# Altium schematic symbol library TE_Connectivity_Alcoswitch_FSM6JSMA.SchLib: 1 symbol
Pins are listed as number, name and electrical type; pins without a type are passive.

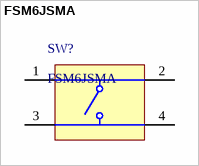
[diagram p0: symbol FSM6JSMA]

## FSM6JSMA
designator SW?
Switch, SPST, 24 V, -35 to 85 degC, 4-Pin SMD, RoHS, Tape and Reel; Manufacturer: TE Connectivity; Contact Resistance: 100mOhm; Operating Force: 1.57N; Current Rating: 50mA; Electrical Life: 100000Cycles; Case\/Package: SMD/SMT; Actuator Length: 3.4mm; Voltage Rating (DC): 24V; Illumination Type: Illuminated; Max Voltage Rating (DC): 12V; Switch Travel: 0.25mm; Actuator Material: Polyamide; RoHSCompliant: true; Min Operating Temperature: -35degC; Width: 6mm; Insulation Resistance: 100MOhm; Termination: GullWing; Max Operating Temperature: 85degC; Mechanical Life: 100000Cycles; Package Reference: FSM6JSMA; Lead Free: LeadFree; Datasheet Version: Rev. V, 02/2015; Contact Plating: Silver; Throw Configuration: SPST; Voltage Rating: 24V; Mount: SurfaceMount; Datasheet URL: http://www.te.com/commerce/DocumentDelivery/DDEController?Action=showdoc&DocId=Customer+Drawing%7F2-1437565-7%7FV%7Fpdf%7FEnglish%7FENG_CD_2-1437565-7_V.pdf%7F4-1437565-9; Length: 6mm; REACH SVHC: Unknown; Manufacturer URL: http://www.te.com/; ELV: Compliant; Package Description: 4-Pin Surface Mount Device, Body 6 x 6 mm, Pitch 4.5 mm; Orientation: Straight; Package Quantity: 750; Packaging: LoosePiece; Contact Current Rating: 50mA; Mounting Technology: SurfaceMount; Contact Material: CopperAlloy; PartNumber: FSM6JSMA
footprint TECO-FSM6JSMA_V
pins: 1, 2, 3, 4